# Altium schematic symbol library D-AK-2.SchLib: 1 symbol
Pins are listed as number, name and electrical type; pins without a type are passive.

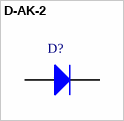
[diagram p0: symbol D-AK-2]

## D-AK-2
designator D?
pins: 1 A, 2 K